# Altium integrated library STM32.IntLib: 732 symbols (part 81 of 99)
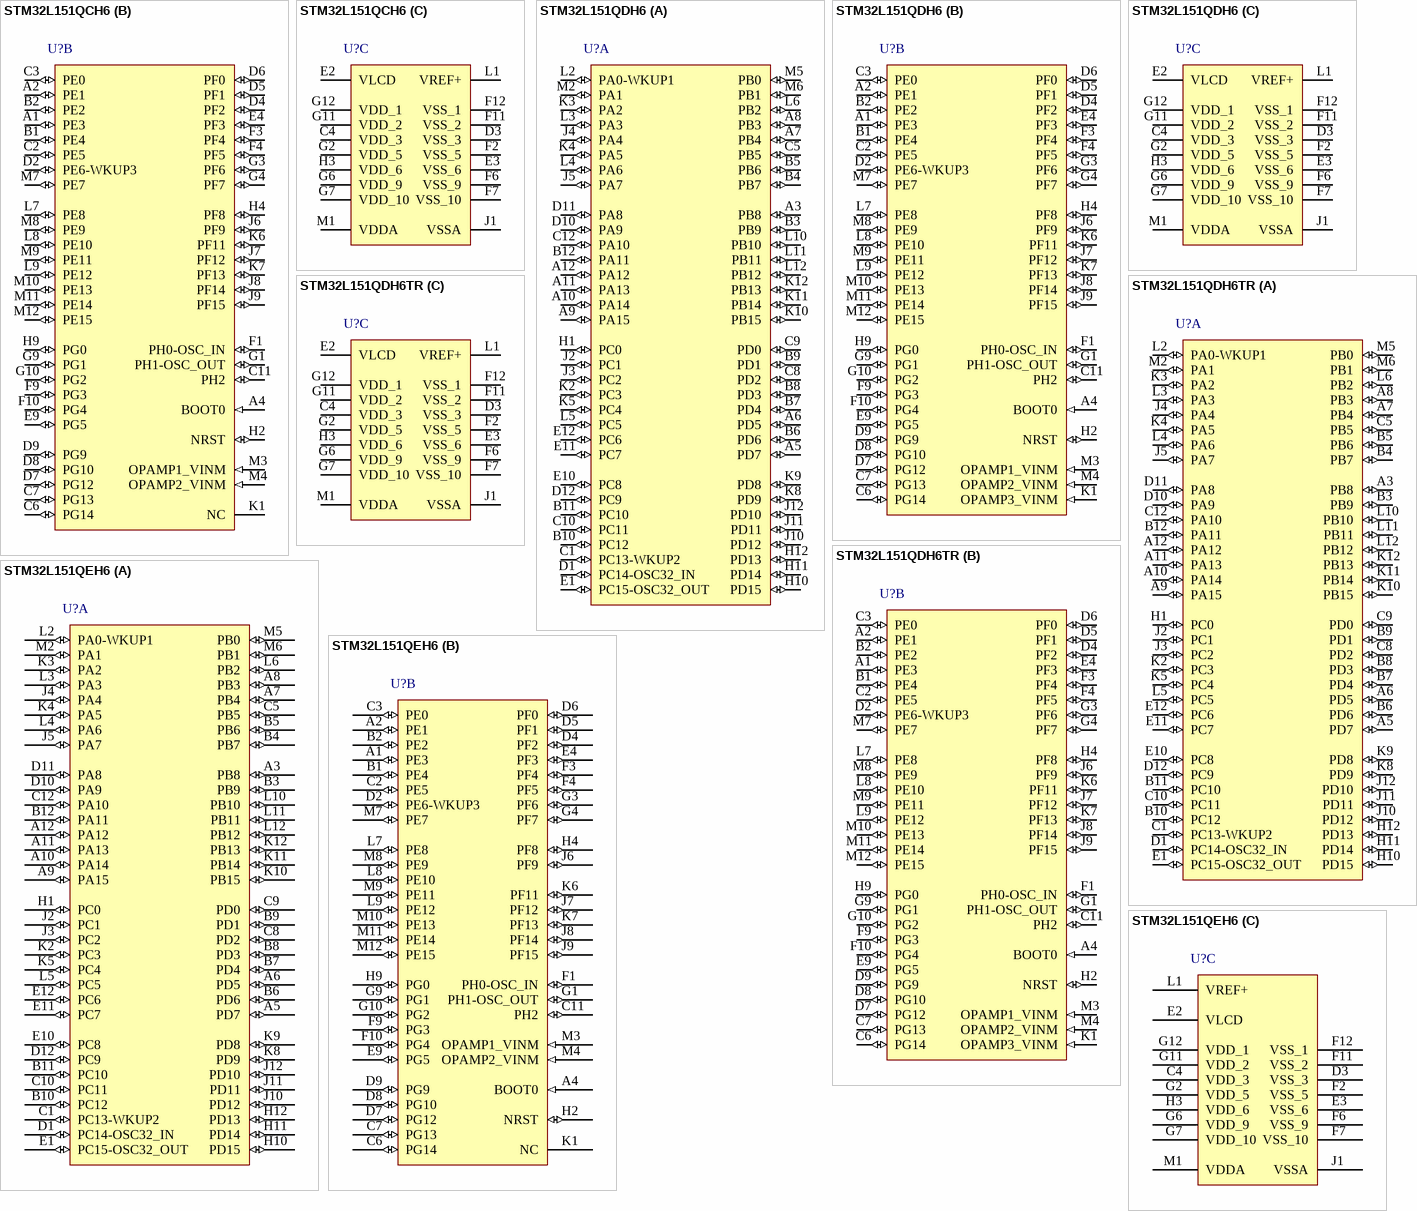
[diagram p234: symbols STM32L151QCH6 to STM32L151QEH6]

## STM32L151QDH6
designator U?
ARM Cortex-M3 32-bit MCU, 384 KB Flash, 48 KB Internal RAM, 109 I/Os, 132-pin UFBGA, -40 to 85 degC, Tray; Manufacturer: STMicroelectronics; PartNumber: STM32L151QDH6; D/A Converter: 2x12-bit (2 Channel); Data E2PROM nom (B): 12288; FLASH Size (Prog) (kB): 384; I/Os (High Current): 109; Integrated op-amps: 3; Internal RAM Size (kB): 48; Operating Frequency(F) (Processor speed) (MHz): 32; Supply Voltage(Vcc) min (V): 1.65; DatasheetVersion: Rev. 6; PackageVersion: Rev. 4, 02/2013; PackageReference: UFBGA132; PackageDescription: 132-Ball Ultra Thin Fine Pitch Ball Grid Array, 7 x 7 x 0.6 mm Body, 0.5 mm Pitch; Core: ARM Cortex-M3; Packing: Tray; Mounting Technology: Surface Mount; ComponentLink1Description: Manufacturer URL; ComponentLink1URL: http://www.st.com/web/en/home.html; ComponentLink2Description: Datasheet; ComponentLink2URL: http://www.st.com/st-web-ui/static/active/en/resource/technical/document/datasheet/DM00034689.pdf; ComponentLink3Description: Package Specification; ComponentLink3URL: http://www.st.com/st-web-ui/static/active/en/resource/technical/document/datasheet/DM00039232.pdf
footprint STM-UFBGA132 (BGA, 132-Balls, Body 7x7mm, Pitch 0.5mm)
part A pins: A3 PB8 (io) "PB8/TIM4_CH3/TIM10_CH1/I2C1_SCL/LCD_SEG16/SDIO_D4", A5 PD7 (io) "PD7/TIM9_CH2/USART2_CK/FSMC_NE1", A6 PD5 (io) "PD5/USART2_TX/FSMC_NWE", A7 PB4 (io) "PB4/NJTRST/TIM3_CH1/SPI1_MISO/SPI3_MISO/LCD_SEG8/COMP2_INP", A8 PB3 (io) "PB3/JTDO/TIM2_CH2/SPI1_SCK/SPI3_SCK/I2S3_CK/LCD_SEG7/COMP2_INM", A9 PA15 (io) "PA15/JTDI/TIM2_CH1_ETR/SPI1_NSS/SPI3_NSS/I2S3_WS/LCD_SEG17", A10 PA14 (io) "PA14/JTCK-SWCLK", A11 PA13 (io) "PA13/JTMS-SWDAT", A12 PA12 (io) "PA12/USART1_RTS/USB_DP/SPI1_MOSI", B3 PB9 (io) "PB9/TIM4_CH4/TIM11_CH1/I2C1_SDA/LCD_COM3/SDIO_D5", B4 PB7 (io) "PB7/TIM4_CH2/I2C1_SDA/USART1_RX/PVD_IN/FSMC_NADV/COMP2_INP", B5 PB6 (io) "PB6/TIM4_CH1/I2C1_SCL/USART1_TX/COMP2_INP", B6 PD6 (io) "PD6/USART2_RX/FSMC_NWAIT", B7 PD4 (io) "PD4/SPI2_MOSI/I2S2_SD/USART2_RTS/FSMC_NOE", B8 PD3 (io) "PD3/SPI2_MISO/USART2_CTS/FSMC_CLK", B9 PD1 (io) "PD1/SPI2_SCK/I2S2_CK/FSMC_D3", B10 PC12 (io) "PC12/SPI3_MOSI/I2S3_SD/USART3_CK/UART5_TX/LCD_SEG30/LCD_SEG42/LCD_COM6/SDIO_CK", B11 PC10 (io) "PC10/SPI3_SCK/I2S3_CK/USART3_TX/UART4_TX/LCD_SEG28/LCD_SEG40/LCD_COM4/SDIO_D2", B12 PA11 (io) "PA11/USART1_CTS/USB_DM/SPI1_MISO", C1 PC13-WKUP2 (io) "PC13-WKUP2/PC13/WKUP2/RTC_TAMP1/RTC_TS/RTC_OUT", C5 PB5 (io) "PB5/TIM3_CH2/I2C1_SMBA/SPI1_MOSI/SPI3_MOSI/I2S3_SD/LCD_SEG9/COMP2_INP", C8 PD2 (io) "PD2/TIM3_ETR/UART5_RX/LCD_SEG31/LCD_SEG43/LCD_COM7/SDIO_CMD", C9 PD0 (io) "PD0/TIM9_CH1/SPI2_NSS/I2S2_WS/FSMC_D2", C10 PC11 (io) "PC11/SPI3_MISO/USART3_RX/UART4_RX/LCD_SEG29/LCD_SEG41/LCD_COM5/SDIO_D3", C12 PA10 (io) "PA10/USART1_RX/LCD_COM2", D1 PC14-OSC32_IN (io) "PC14-OSC32_IN/PC14/OSC32_IN", D10 PA9 (io) "PA9/USART1_TX/LCD_COM1", D11 PA8 (io) "PA8/USART1_CK/MCO/LCD_COM0", D12 PC9 (io) "PC9/TIM3_CH4/LCD_SEG27/SDIO_D1", E1 PC15-OSC32_OUT (io) "PC15-OSC32_OUT/PC15/OSC32_OUT", E10 PC8 (io) "PC8/TIM3_CH3/LCD_SEG26/SDIO_D0", E11 PC7 (io) "PC7/TIM3_CH2/I2S3_MCK/LCD_SEG25/SDIO_D7", E12 PC6 (io) "PC6/TIM3_CH1/I2S2_MCK/LCD_SEG24/SDIO_D6", H1 PC0 (io) "PC0/LCD_SEG18/ADC_IN10/COMP1_INP", H10 PD15 (io) "PD15/TIM4_CH4/LCD_SEG35/FSMC_D1", H11 PD14 (io) "PD14/TIM4_CH3/LCD_SEG34/FSMC_D0", H12 PD13 (io) "PD13/TIM4_CH2/LCD_SEG33/FSMC_A18", J2 PC1 (io) "PC1/LCD_SEG19/ADC_IN11/COMP1_INP/OPAMP3_VINP", J3 PC2 (io) "PC2/LCD_SEG20/ADC_IN12/COMP1_INP", J4 PA4 (io) "PA4/SPI1_NSS/SPI3_NSS/I2S3_WS/USART2_CK/ADC_IN4/DAC_OUT1/COMP1_INP", J5 PA7 (io) "PA7/TIM3_CH2/TIM11_CH1/SPI1_MOSI/LCD_SEG4/ADC_IN7/COMP1_INP", J10 PD12 (io) "PD12/TIM4_CH1/USART3_RTS/LCD_SEG32/FSMC_A17", J11 PD11 (io) "PD11/USART3_CTS/LCD_SEG31/FSMC_A16", J12 PD10 (io) "PD10/USART3_CK/LCD_SEG30/FSMC_D15", K2 PC3 (io) "PC3/LCD_SEG21/ADC_IN13/COMP1_INP/OPAMP3_VOUT", K3 PA2 (io) "PA2/TIM2_CH3/TIM5_CH3/TIM9_CH1/USART2_TX/LCD_SEG1/ADC_IN2/COMP1_INP", K4 PA5 (io) "PA5/TIM2_CH1_ETR/SPI1_SCK/ADC_IN5/DAC_OUT2/COMP1_INP", K5 PC4 (io) "PC4/LCD_SEG22/ADC_IN14/COMP1_INP", K8 PD9 (io) "PD9/USART3_RX/LCD_SEG29/FSMC_D14", K9 PD8 (io) "PD8/USART3_TX/LCD_SEG28/FSMC_D13", K10 PB15 (io) "PB15/TIM11_CH1/SPI2_MOSI/I2S2_SD/LCD_SEG15/ADC_IN21/COMP1_INP/RTC_REFIN", K11 PB14 (io) "PB14/TIM9_CH2/SPI2_MISO/USART3_RTS/LCD_SEG14/ADC_IN20/COMP1_INP", K12 PB13 (io) "PB13/TIM9_CH1/SPI2_SCK/I2S2_CK/USART3_CTS/LCD_SEG13/ADC_IN19/COMP1_INP", L2 PA0-WKUP1 (io) "PA0-WKUP1/PA0/WKUP1/RTC_TAMP2/TIM2_CH1_ETR/TIM5_CH1/USART2_CTS/ADC_IN0/COMP1_INP", L3 PA3 (io) "PA3/TIM2_CH4/TIM5_CH4/TIM9_CH2/USART2_RX/LCD_SEG2/ADC_IN3/COMP1_INP/OPAMP1_VOUT", L4 PA6 (io) "PA6/TIM3_CH1/TIM10_CH1/SPI1_MISO/LCD_SEG3/ADC_IN6/COMP1_INP/OPAMP2_VINP", L5 PC5 (io) "PC5/LCD_SEG23/ADC_IN15/COMP1_INP", L6 PB2 (io) "PB2/BOOT1/ADC_IN0B/COMP1_INP", L10 PB10 (io) "PB10/TIM2_CH3/I2C2_SCL/USART3_TX/LCD_SEG10", L11 PB11 (io) "PB11/TIM2_CH4/I2C2_SDA/USART3_RX/LCD_SEG11", L12 PB12 (io) "PB12/TIM10_CH1/I2C2_SMBA/SPI2_NSS/I2S2_WS/USART3_CK/LCD_SEG12/ADC_IN18/COMP1_INP", M2 PA1 (io) "PA1/TIM2_CH2/TIM5_CH2/USART2_RTS/LCD_SEG0/ADC_IN1/COMP1_INP/OPAMP1_VINP", M5 PB0 (io) "PB0/TIM3_CH3/LCD_SEG5/ADC_IN8/COMP1_INP/VREF_OUT/OPAMP2_VOUT", M6 PB1 (io) "PB1/TIM3_CH4/LCD_SEG6/ADC_IN9/COMP1_INP/VREF_OUT"
part B pins: A1 PE3 (io) "PE3/TIM3_CH1/LCD_SEG39/FSMC_A19/TRACED0", A2 PE1 (io) "PE1/TIM11_CH1/LCD_SEG37/FSMC_NBL1", A4 BOOT0 (in), B1 PE4 (io) "PE4/TIM3_CH2/FSMC_A20/TRACED1", B2 PE2 (io) "PE2/TIM3_ETR/LCD_SEG38/FSMC_A23/TRACECLK", C2 PE5 (io) "PE5/TIM9_CH1/FSMC_A21/TRACED2", C3 PE0 (io) "PE0/TIM4_ETR/TIM10_CH1/LCD_SEG36/FSMC_NBL0", C6 PG14 (io) "PG14/FSMC_A25", C7 PG13 (io) "PG13/FSMC_A24", C11 PH2 (io) "PH2/FSMC_A22", D2 PE6-WKUP3 (io) "PE6-WKUP3/PE6/WKUP3/RTC_TAMP3/TIM9_CH2/TRACED3", D4 PF2 (io) "PF2/FSMC_A2", D5 PF1 (io) "PF1/FSMC_A1", D6 PF0 (io) "PF0/FSMC_A0", D7 PG12 (io) "PG12/FSMC_NE4", D8 PG10 (io) "PG10/FSMC_NE3", D9 PG9 (io) "PG9/FSMC_NE2", E4 PF3 (io) "PF3/FSMC_A3", E9 PG5 (io) "PG5/FSMC_A15", F1 PH0-OSC_IN (io) "PH0-OSC_IN/PH0/OSC_IN", F3 PF4 (io) "PF4/FSMC_A4", F4 PF5 (io) "PF5/FSMC_A5", F9 PG3 (io) "PG3/FSMC_A13/ADC_IN11B/COMP1_INP", F10 PG4 (io) "PG4/FSMC_A14/ADC_IN12B/COMP1_INP", G1 PH1-OSC_OUT (io) "PH1-OSC_OUT/PH1/OSC_OUT", G3 PF6 (io) "PF6/TIM5_CH1/TIM5_ETR/ADC_IN27", G4 PF7 (io) "PF7/TIM5_CH2/ADC_IN28/COMP1_INP", G9 PG1 (io) "PG1/ADC_IN9B/COMP1_INP/FSMC_A11", G10 PG2 (io) "PG2/FSMC_A12/ADC_IN10B/COMP1_INP", H2 NRST (io), H4 PF8 (io) "PF8/TIM5_CH3/ADC_IN29/COMP1_INP", H9 PG0 (io) "PG0/ADC_IN8B/COMP1_INP/FSMC_A10", J6 PF9 (io) "PF9/TIM5_CH4/ADC_IN30/COMP1_INP", J7 PF12 (io) "PF12/ADC_IN2B/COMP1_INP/FSMC_A6", J8 PF14 (io) "PF14/ADC_IN6B/COMP1_INP/FSMC_A8", J9 PF15 (io) "PF15/ADC_IN7B/COMP1_INP/FSMC_A9", K1 OPAMP3_VINM (in), K6 PF11 (io) "PF11/ADC_IN1B/COMP1_INP", K7 PF13 (io) "PF13/ADC_IN3B/COMP1_INP/FSMC_A7", L7 PE8 (io) "PE8/FSMC_D5/ADC_IN23/COMP1_INP", L8 PE10 (io) "PE10/TIM2_CH2/FSMC_D7/ADC_IN25/COMP1_INP", L9 PE12 (io) "PE12/TIM2_CH4/SPI1_NSS/FSMC_D9", M3 OPAMP1_VINM (in), M4 OPAMP2_VINM (in), M7 PE7 (io) "PE7/FSMC_D4/ADC_IN22/COMP1_INP", M8 PE9 (io) "PE9/TIM2_CH1_ETR/FSMC_D6/ADC_IN24/COMP1_INP", M9 PE11 (io) "PE11/TIM2_CH3/FSMC_D8", M10 PE13 (io) "PE13/SPI1_SCK/FSMC_D10", M11 PE14 (io) "PE14/SPI1_MISO/FSMC_D11", M12 PE15 (io) "PE15/SPI1_MOSI/FSMC_D12"
part C pins: C4 VDD_3 (power), D3 VSS_3 (power), E2 VLCD (power), E3 VSS_6 (power), F2 VSS_5 (power), F6 VSS_9 (power), F7 VSS_10 (power), F11 VSS_2 (power), F12 VSS_1 (power), G2 VDD_5 (power), G6 VDD_9 (power), G7 VDD_10 (power), G11 VDD_2 (power), G12 VDD_1 (power), H3 VDD_6 (power), J1 VSSA (power), L1 VREF+ (power), M1 VDDA (power)

## STM32L151QDH6TR
designator U?
ARM Cortex-M3 32-bit MCU, 384 KB Flash, 48 KB Internal RAM, 109 I/Os, 132-pin UFBGA, -40 to 85 degC, Tape and Reel; Manufacturer: STMicroelectronics; PartNumber: STM32L151QDH6TR; D/A Converter: 2x12-bit (2 Channel); Data E2PROM nom (B): 12288; FLASH Size (Prog) (kB): 384; I/Os (High Current): 109; Integrated op-amps: 3; Internal RAM Size (kB): 48; Operating Frequency(F) (Processor speed) (MHz): 32; Supply Voltage(Vcc) min (V): 1.65; DatasheetVersion: Rev. 6; PackageVersion: Rev. 4, 02/2013; PackageReference: UFBGA132; PackageDescription: 132-Ball Ultra Thin Fine Pitch Ball Grid Array, 7 x 7 x 0.6 mm Body, 0.5 mm Pitch; Core: ARM Cortex-M3; Packing: Tape and Reel; Mounting Technology: Surface Mount; ComponentLink1Description: Manufacturer URL; ComponentLink1URL: http://www.st.com/web/en/home.html; ComponentLink2Description: Datasheet; ComponentLink2URL: http://www.st.com/st-web-ui/static/active/en/resource/technical/document/datasheet/DM00034689.pdf; ComponentLink3Description: Package Specification; ComponentLink3URL: http://www.st.com/st-web-ui/static/active/en/resource/technical/document/datasheet/DM00039232.pdf
footprint STM-UFBGA132 (BGA, 132-Balls, Body 7x7mm, Pitch 0.5mm)
part A pins: A3 PB8 (io) "PB8/TIM4_CH3/TIM10_CH1/I2C1_SCL/LCD_SEG16/SDIO_D4", A5 PD7 (io) "PD7/TIM9_CH2/USART2_CK/FSMC_NE1", A6 PD5 (io) "PD5/USART2_TX/FSMC_NWE", A7 PB4 (io) "PB4/NJTRST/TIM3_CH1/SPI1_MISO/SPI3_MISO/LCD_SEG8/COMP2_INP", A8 PB3 (io) "PB3/JTDO/TIM2_CH2/SPI1_SCK/SPI3_SCK/I2S3_CK/LCD_SEG7/COMP2_INM", A9 PA15 (io) "PA15/JTDI/TIM2_CH1_ETR/SPI1_NSS/SPI3_NSS/I2S3_WS/LCD_SEG17", A10 PA14 (io) "PA14/JTCK-SWCLK", A11 PA13 (io) "PA13/JTMS-SWDAT", A12 PA12 (io) "PA12/USART1_RTS/USB_DP/SPI1_MOSI", B3 PB9 (io) "PB9/TIM4_CH4/TIM11_CH1/I2C1_SDA/LCD_COM3/SDIO_D5", B4 PB7 (io) "PB7/TIM4_CH2/I2C1_SDA/USART1_RX/PVD_IN/FSMC_NADV/COMP2_INP", B5 PB6 (io) "PB6/TIM4_CH1/I2C1_SCL/USART1_TX/COMP2_INP", B6 PD6 (io) "PD6/USART2_RX/FSMC_NWAIT", B7 PD4 (io) "PD4/SPI2_MOSI/I2S2_SD/USART2_RTS/FSMC_NOE", B8 PD3 (io) "PD3/SPI2_MISO/USART2_CTS/FSMC_CLK", B9 PD1 (io) "PD1/SPI2_SCK/I2S2_CK/FSMC_D3", B10 PC12 (io) "PC12/SPI3_MOSI/I2S3_SD/USART3_CK/UART5_TX/LCD_SEG30/LCD_SEG42/LCD_COM6/SDIO_CK", B11 PC10 (io) "PC10/SPI3_SCK/I2S3_CK/USART3_TX/UART4_TX/LCD_SEG28/LCD_SEG40/LCD_COM4/SDIO_D2", B12 PA11 (io) "PA11/USART1_CTS/USB_DM/SPI1_MISO", C1 PC13-WKUP2 (io) "PC13-WKUP2/PC13/WKUP2/RTC_TAMP1/RTC_TS/RTC_OUT", C5 PB5 (io) "PB5/TIM3_CH2/I2C1_SMBA/SPI1_MOSI/SPI3_MOSI/I2S3_SD/LCD_SEG9/COMP2_INP", C8 PD2 (io) "PD2/TIM3_ETR/UART5_RX/LCD_SEG31/LCD_SEG43/LCD_COM7/SDIO_CMD", C9 PD0 (io) "PD0/TIM9_CH1/SPI2_NSS/I2S2_WS/FSMC_D2", C10 PC11 (io) "PC11/SPI3_MISO/USART3_RX/UART4_RX/LCD_SEG29/LCD_SEG41/LCD_COM5/SDIO_D3", C12 PA10 (io) "PA10/USART1_RX/LCD_COM2", D1 PC14-OSC32_IN (io) "PC14-OSC32_IN/PC14/OSC32_IN", D10 PA9 (io) "PA9/USART1_TX/LCD_COM1", D11 PA8 (io) "PA8/USART1_CK/MCO/LCD_COM0", D12 PC9 (io) "PC9/TIM3_CH4/LCD_SEG27/SDIO_D1", E1 PC15-OSC32_OUT (io) "PC15-OSC32_OUT/PC15/OSC32_OUT", E10 PC8 (io) "PC8/TIM3_CH3/LCD_SEG26/SDIO_D0", E11 PC7 (io) "PC7/TIM3_CH2/I2S3_MCK/LCD_SEG25/SDIO_D7", E12 PC6 (io) "PC6/TIM3_CH1/I2S2_MCK/LCD_SEG24/SDIO_D6", H1 PC0 (io) "PC0/LCD_SEG18/ADC_IN10/COMP1_INP", H10 PD15 (io) "PD15/TIM4_CH4/LCD_SEG35/FSMC_D1", H11 PD14 (io) "PD14/TIM4_CH3/LCD_SEG34/FSMC_D0", H12 PD13 (io) "PD13/TIM4_CH2/LCD_SEG33/FSMC_A18", J2 PC1 (io) "PC1/LCD_SEG19/ADC_IN11/COMP1_INP/OPAMP3_VINP", J3 PC2 (io) "PC2/LCD_SEG20/ADC_IN12/COMP1_INP", J4 PA4 (io) "PA4/SPI1_NSS/SPI3_NSS/I2S3_WS/USART2_CK/ADC_IN4/DAC_OUT1/COMP1_INP", J5 PA7 (io) "PA7/TIM3_CH2/TIM11_CH1/SPI1_MOSI/LCD_SEG4/ADC_IN7/COMP1_INP", J10 PD12 (io) "PD12/TIM4_CH1/USART3_RTS/LCD_SEG32/FSMC_A17", J11 PD11 (io) "PD11/USART3_CTS/LCD_SEG31/FSMC_A16", J12 PD10 (io) "PD10/USART3_CK/LCD_SEG30/FSMC_D15", K2 PC3 (io) "PC3/LCD_SEG21/ADC_IN13/COMP1_INP/OPAMP3_VOUT", K3 PA2 (io) "PA2/TIM2_CH3/TIM5_CH3/TIM9_CH1/USART2_TX/LCD_SEG1/ADC_IN2/COMP1_INP", K4 PA5 (io) "PA5/TIM2_CH1_ETR/SPI1_SCK/ADC_IN5/DAC_OUT2/COMP1_INP", K5 PC4 (io) "PC4/LCD_SEG22/ADC_IN14/COMP1_INP", K8 PD9 (io) "PD9/USART3_RX/LCD_SEG29/FSMC_D14", K9 PD8 (io) "PD8/USART3_TX/LCD_SEG28/FSMC_D13", K10 PB15 (io) "PB15/TIM11_CH1/SPI2_MOSI/I2S2_SD/LCD_SEG15/ADC_IN21/COMP1_INP/RTC_REFIN", K11 PB14 (io) "PB14/TIM9_CH2/SPI2_MISO/USART3_RTS/LCD_SEG14/ADC_IN20/COMP1_INP", K12 PB13 (io) "PB13/TIM9_CH1/SPI2_SCK/I2S2_CK/USART3_CTS/LCD_SEG13/ADC_IN19/COMP1_INP", L2 PA0-WKUP1 (io) "PA0-WKUP1/PA0/WKUP1/RTC_TAMP2/TIM2_CH1_ETR/TIM5_CH1/USART2_CTS/ADC_IN0/COMP1_INP", L3 PA3 (io) "PA3/TIM2_CH4/TIM5_CH4/TIM9_CH2/USART2_RX/LCD_SEG2/ADC_IN3/COMP1_INP/OPAMP1_VOUT", L4 PA6 (io) "PA6/TIM3_CH1/TIM10_CH1/SPI1_MISO/LCD_SEG3/ADC_IN6/COMP1_INP/OPAMP2_VINP", L5 PC5 (io) "PC5/LCD_SEG23/ADC_IN15/COMP1_INP", L6 PB2 (io) "PB2/BOOT1/ADC_IN0B/COMP1_INP", L10 PB10 (io) "PB10/TIM2_CH3/I2C2_SCL/USART3_TX/LCD_SEG10", L11 PB11 (io) "PB11/TIM2_CH4/I2C2_SDA/USART3_RX/LCD_SEG11", L12 PB12 (io) "PB12/TIM10_CH1/I2C2_SMBA/SPI2_NSS/I2S2_WS/USART3_CK/LCD_SEG12/ADC_IN18/COMP1_INP", M2 PA1 (io) "PA1/TIM2_CH2/TIM5_CH2/USART2_RTS/LCD_SEG0/ADC_IN1/COMP1_INP/OPAMP1_VINP", M5 PB0 (io) "PB0/TIM3_CH3/LCD_SEG5/ADC_IN8/COMP1_INP/VREF_OUT/OPAMP2_VOUT", M6 PB1 (io) "PB1/TIM3_CH4/LCD_SEG6/ADC_IN9/COMP1_INP/VREF_OUT"
part B pins: A1 PE3 (io) "PE3/TIM3_CH1/LCD_SEG39/FSMC_A19/TRACED0", A2 PE1 (io) "PE1/TIM11_CH1/LCD_SEG37/FSMC_NBL1", A4 BOOT0 (in), B1 PE4 (io) "PE4/TIM3_CH2/FSMC_A20/TRACED1", B2 PE2 (io) "PE2/TIM3_ETR/LCD_SEG38/FSMC_A23/TRACECLK", C2 PE5 (io) "PE5/TIM9_CH1/FSMC_A21/TRACED2", C3 PE0 (io) "PE0/TIM4_ETR/TIM10_CH1/LCD_SEG36/FSMC_NBL0", C6 PG14 (io) "PG14/FSMC_A25", C7 PG13 (io) "PG13/FSMC_A24", C11 PH2 (io) "PH2/FSMC_A22", D2 PE6-WKUP3 (io) "PE6-WKUP3/PE6/WKUP3/RTC_TAMP3/TIM9_CH2/TRACED3", D4 PF2 (io) "PF2/FSMC_A2", D5 PF1 (io) "PF1/FSMC_A1", D6 PF0 (io) "PF0/FSMC_A0", D7 PG12 (io) "PG12/FSMC_NE4", D8 PG10 (io) "PG10/FSMC_NE3", D9 PG9 (io) "PG9/FSMC_NE2", E4 PF3 (io) "PF3/FSMC_A3", E9 PG5 (io) "PG5/FSMC_A15", F1 PH0-OSC_IN (io) "PH0-OSC_IN/PH0/OSC_IN", F3 PF4 (io) "PF4/FSMC_A4", F4 PF5 (io) "PF5/FSMC_A5", F9 PG3 (io) "PG3/FSMC_A13/ADC_IN11B/COMP1_INP", F10 PG4 (io) "PG4/FSMC_A14/ADC_IN12B/COMP1_INP", G1 PH1-OSC_OUT (io) "PH1-OSC_OUT/PH1/OSC_OUT", G3 PF6 (io) "PF6/TIM5_CH1/TIM5_ETR/ADC_IN27", G4 PF7 (io) "PF7/TIM5_CH2/ADC_IN28/COMP1_INP", G9 PG1 (io) "PG1/ADC_IN9B/COMP1_INP/FSMC_A11", G10 PG2 (io) "PG2/FSMC_A12/ADC_IN10B/COMP1_INP", H2 NRST (io), H4 PF8 (io) "PF8/TIM5_CH3/ADC_IN29/COMP1_INP", H9 PG0 (io) "PG0/ADC_IN8B/COMP1_INP/FSMC_A10", J6 PF9 (io) "PF9/TIM5_CH4/ADC_IN30/COMP1_INP", J7 PF12 (io) "PF12/ADC_IN2B/COMP1_INP/FSMC_A6", J8 PF14 (io) "PF14/ADC_IN6B/COMP1_INP/FSMC_A8", J9 PF15 (io) "PF15/ADC_IN7B/COMP1_INP/FSMC_A9", K1 OPAMP3_VINM (in), K6 PF11 (io) "PF11/ADC_IN1B/COMP1_INP", K7 PF13 (io) "PF13/ADC_IN3B/COMP1_INP/FSMC_A7", L7 PE8 (io) "PE8/FSMC_D5/ADC_IN23/COMP1_INP", L8 PE10 (io) "PE10/TIM2_CH2/FSMC_D7/ADC_IN25/COMP1_INP", L9 PE12 (io) "PE12/TIM2_CH4/SPI1_NSS/FSMC_D9", M3 OPAMP1_VINM (in), M4 OPAMP2_VINM (in), M7 PE7 (io) "PE7/FSMC_D4/ADC_IN22/COMP1_INP", M8 PE9 (io) "PE9/TIM2_CH1_ETR/FSMC_D6/ADC_IN24/COMP1_INP", M9 PE11 (io) "PE11/TIM2_CH3/FSMC_D8", M10 PE13 (io) "PE13/SPI1_SCK/FSMC_D10", M11 PE14 (io) "PE14/SPI1_MISO/FSMC_D11", M12 PE15 (io) "PE15/SPI1_MOSI/FSMC_D12"
part C pins: C4 VDD_3 (power), D3 VSS_3 (power), E2 VLCD (power), E3 VSS_6 (power), F2 VSS_5 (power), F6 VSS_9 (power), F7 VSS_10 (power), F11 VSS_2 (power), F12 VSS_1 (power), G2 VDD_5 (power), G6 VDD_9 (power), G7 VDD_10 (power), G11 VDD_2 (power), G12 VDD_1 (power), H3 VDD_6 (power), J1 VSSA (power), L1 VREF+ (power), M1 VDDA (power)

## STM32L151QEH6
designator U?
ARM Cortex-M3 32-bit MCU, 512 KB Flash, 80 KB Internal RAM, 109 I/Os, 132-pin UFBGA, -40 to 85 degC, Tray; Manufacturer: STMicroelectronics; PartNumber: STM32L151QEH6; D/A Converter: 2x12-bit (2 Channel); Data E2PROM nom (KB): 16; FLASH Size (Prog) (kB): 512; I/Os (High Current): 109; Internal RAM Size (kB): 80; Operating Frequency(F) (Processor speed) (MHz): 32; Supply Voltage (V): 1.8 to 3.6 V; DatasheetVersion: Rev. 4; PackageVersion: Rev. 4; PackageReference: UFBGA132; PackageDescription: 132-Ball Ultra Thin Fine Pitch Ball Grid Array, Body 7 x 7 mm, Pitch 0.5 mm; Core: ARM Cortex-M3; Temperature Range: -40 to 85 degC; Packing: Tray; Mounting Technology: Surface Mount; ComponentLink1Description: Manufacturer URL; ComponentLink1URL: http://www.st.com/web/en/home.html; ComponentLink2Description: Datasheet; ComponentLink2URL: http://www.st.com/st-web-ui/static/active/en/resource/technical/document/datasheet/DM00098321.pdf; ComponentLink3Description: Package Specification; ComponentLink3URL: http://www.st.com/st-web-ui/static/active/en/resource/technical/document/datasheet/DM00098321.pdf
footprint STM-UFBGA132 (BGA, 132-Balls, Body 7x7mm, Pitch 0.5mm)
part A pins: A3 PB8 (io) "PB8/TIM4_CH3/TIM10_CH1/I2C1_SCL/LCD_SEG16", A5 PD7 (io) "PD7/TIM9_CH2/USART2_CK", A6 PD5 (io) "PD5/USART2_TX", A7 PB4 (io) "PB4/NJTRST/TIM3_CH1/SPI1_MISO/SPI3_MISO/LCD_SEG8/COMP2_INP", A8 PB3 (io) "PB3/JTDO/TIM2_CH2/SPI1_SCK/SPI3_SCK/I2S3_CK/LCD_SEG7/COMP2_INM", A9 PA15 (io) "PA15/JTDI/TIM2_CH1_ETR/SPI1_NSS/SPI3_NSS/I2S3_WS/LCD_SEG17", A10 PA14 (io) "PA14/JTCK-SWCLK", A11 PA13 (io) "PA13/JTMS-SWDAT", A12 PA12 (io) "PA12/USART1_RTS/USB_DP/SPI1_MOSI", B3 PB9 (io) "PB9/TIM4_CH4/TIM11_CH1/I2C1_SDA/LCD_COM3", B4 PB7 (io) "PB7/TIM4_CH2/I2C1_SDA/USART1_RX/PVD_IN/COMP2_INP", B5 PB6 (io) "PB6/TIM4_CH1/I2C1_SCL/USART1_TX/COMP2_INP", B6 PD6 (io) "PD6/USART2_RX", B7 PD4 (io) "PD4/SPI2_MOSI/I2S2_SD/USART2_RTS", B8 PD3 (io) "PD3/SPI2_MISO/USART2_CTS", B9 PD1 (io) "PD1/SPI2_SCK/I2S2_CK", B10 PC12 (io) "PC12/SPI3_MOSI/I2S3_SD/USART3_CK/UART5_TX/LCD_SEG30/LCD_SEG42/LCD_COM6", B11 PC10 (io) "PC10/SPI3_SCK/I2S3_CK/USART3_TX/UART4_TX/LCD_SEG28/LCD_SEG40/LCD_COM4", B12 PA11 (io) "PA11/USART1_CTS/USB_DM/SPI1_MISO", C1 PC13-WKUP2 (io) "PC13-WKUP2/PC13/WKUP2/RTC_TAMP1/RTC_TS/RTC_OUT", C5 PB5 (io) "PB5/TIM3_CH2/I2C1_SMBA/SPI1_MOSI/SPI3_MOSI/I2S3_SD/LCD_SEG9/COMP2_INP", C8 PD2 (io) "PD2/TIM3_ETR/UART5_RX/LCD_SEG31/LCD_SEG43/LCD_COM7", C9 PD0 (io) "PD0/TIM9_CH1/SPI2_NSS/I2S2_WS", C10 PC11 (io) "PC11/SPI3_MISO/USART3_RX/UART4_RX/LCD_SEG29/LCD_SEG41/LCD_COM5", C12 PA10 (io) "PA10/USART1_RX/LCD_COM2", D1 PC14-OSC32_IN (io) "PC14-OSC32_IN/PC14/OSC32_IN", D10 PA9 (io) "PA9/USART1_TX/LCD_COM1", D11 PA8 (io) "PA8/USART1_CK/MCO/LCD_COM0", D12 PC9 (io) "PC9/TIM3_CH4/LCD_SEG27", E1 PC15-OSC32_OUT (io) "PC15-OSC32_OUT/PC15/OSC32_OUT", E10 PC8 (io) "PC8/TIM3_CH3/LCD_SEG26", E11 PC7 (io) "PC7/TIM3_CH2/I2S3_MCK/LCD_SEG25", E12 PC6 (io) "PC6/TIM3_CH1/I2S2_MCK/LCD_SEG24", H1 PC0 (io) "PC0/LCD_SEG18/ADC_IN10/COMP1_INP", H10 PD15 (io) "PD15/TIM4_CH4/LCD_SEG35", H11 PD14 (io) "PD14/TIM4_CH3/LCD_SEG34", H12 PD13 (io) "PD13/TIM4_CH2/LCD_SEG33", J2 PC1 (io) "PC1/LCD_SEG19/ADC_IN11/COMP1_INP", J3 PC2 (io) "PC2/LCD_SEG20/ADC_IN12/COMP1_INP", J4 PA4 (io) "PA4/SPI1_NSS/SPI3_NSS/I2S3_WS/USART2_CK/ADC_IN4/DAC_OUT1/COMP1_INP", J5 PA7 (io) "PA7/TIM3_CH2/TIM11_CH1/SPI1_MOSI/LCD_SEG4/ ADC_IN7/COMP1_INP", J10 PD12 (io) "PD12/TIM4_CH1/USART3_RTS/LCD_SEG32", J11 PD11 (io) "PD11/USART3_CTS/LCD_SEG31", J12 PD10 (io) "PD10/USART3_CK/LCD_SEG30", K2 PC3 (io) "PC3/LCD_SEG21/ADC_IN13/COMP1_INP", K3 PA2 (io) "PA2/TIM2_CH3/TIM5_CH3/TIM9_CH1/USART2_TX/LCD_SEG1/ADC_IN2/COMP1_INP", K4 PA5 (io) "PA5/TIM2_CH1_ETR/SPI1_SCK/ADC_IN5/DAC_OUT2/COMP1_INP", K5 PC4 (io) "PC4/LCD_SEG22/ADC_IN14/COMP1_INP", K8 PD9 (io) "PD9/USART3_RX/LCD_SEG29", K9 PD8 (io) "PD8/USART3_TX/LCD_SEG28", K10 PB15 (io) "PB15/TIM11_CH1/SPI2_MOSI/I2S2_SD/LCD_SEG15/ADC_IN21/COMP1_INP/RTC_REFIN", K11 PB14 (io) "PB14/TIM9_CH2/SPI2_MISO/USART3_RTS/LCD_SEG14/ADC_IN20/COMP1_INP", K12 PB13 (io) "PB13/TIM9_CH1/SPI2_SCK/I2S2_CK/USART3_CTS/LCD_SEG13/ADC_IN19/COMP1_INP", L2 PA0-WKUP1 (io) "PA0-WKUP1/PA0/WKUP1/RTC_TAMP2/TIM2_CH1_ETR/TIM5_CH1/USART2_CTS/ADC_IN0/COMP1_INP", L3 PA3 (io) "PA3/TIM2_CH4/TIM5_CH4/TIM9_CH2/USART2_RX/LCD_SEG2/ADC_IN3/COMP1_INP/OPAMP1_VOUT", L4 PA6 (io) "PA6/TIM3_CH1/TIM10_CH1/SPI1_MISO/LCD_SEG3/ADC_IN6/COMP1_INP/OPAMP2_VINP", L5 PC5 (io) "PC5/LCD_SEG23/ADC_IN15/COMP1_INP", L6 PB2 (io) "PB2/BOOT1/ADC_IN0b/COMP1_INP", L10 PB10 (io) "PB10/TIM2_CH3/I2C2_SCL/USART3_TX/LCD_SEG10", L11 PB11 (io) "PB11/TIM2_CH4/I2C2_SDA/USART3_RX/LCD_SEG11", L12 PB12 (io) "PB12/TIM10_CH1/I2C2_SMBA/SPI2_NSS/I2S2_WS/USART3_CK/LCD_SEG12/ADC_IN18/COMP1_INP", M2 PA1 (io) "PA1/TIM2_CH2/TIM5_CH2/USART2_RTS/LCD_SEG0/ADC_IN1/COMP1_INP/OPAMP1_VINP", M5 PB0 (io) "PB0/TIM3_CH3/LCD_SEG5/ADC_IN8/COMP1_INP/VREF_OUT/OPAMP2_VOUT", M6 PB1 (io) "PB1/TIM3_CH4/LCD_SEG6/ADC_IN9/COMP1_INP/VREF_OUT"
part B pins: A1 PE3 (io) "PE3/TIM3_CH1/LCD_SEG39/TRACED0", A2 PE1 (io) "PE1/TIM11_CH1/LCD_SEG37", A4 BOOT0 (in), B1 PE4 (io) "PE4/TIM3_CH2/TRACED1", B2 PE2 (io) "PE2/TIM3_ETR/LCD_SEG38/TRACECLK", C2 PE5 (io) "PE5/TIM9_CH1/TRACED2", C3 PE0 (io) "PE0/TIM4_ETR/TIM10_CH1/LCD_SEG36", C6 PG14 (io), C7 PG13 (io), C11 PH2 (io), D2 PE6-WKUP3 (io) "PE6-WKUP3/PE6/WKUP3/RTC_TAMP3/TIM9_CH2/TRACED3", D4 PF2 (io), D5 PF1 (io), D6 PF0 (io), D7 PG12 (io), D8 PG10 (io), D9 PG9 (io), E4 PF3 (io), E9 PG5 (io), F1 PH0-OSC_IN (io) "PH0-OSC_IN/PH0/OSC_IN", F3 PF4 (io), F4 PF5 (io), F9 PG3 (io) "PG3/ADC_IN11b/COMP1_INP", F10 PG4 (io) "PG4/ADC_IN12b/COMP1_INP", G1 PH1-OSC_OUT (io) "PH1-OSC_OUT/PH1/OSC_OUT", G3 PF6 (io) "PF6/TIM5_CH1/TIM5_ETR/ADC_IN27", G4 PF7 (io) "PF7/TIM5_CH2/ADC_IN28/COMP1_INP", G9 PG1 (io) "PG1/ADC_IN9b/COMP1_INP", G10 PG2 (io) "PG2/ADC_IN10b/COMP1_INP", H2 NRST (io), H4 PF8 (io) "PF8/TIM5_CH3/ADC_IN29/COMP1_INP", H9 PG0 (io) "PG0/ADC_IN8b/COMP1_INP", J6 PF9 (io) "PF9/TIM5_CH4/ADC_IN30/COMP1_INP", J7 PF12 (io) "PF12/ADC_IN2b/COMP1_INP", J8 PF14 (io) "PF14/ADC_IN6b/COMP1_INP", J9 PF15 (io) "PF15/ADC_IN7b/COMP1_INP", K1 NC, K6 PF11 (io) "PF11/ADC_IN1b/COMP1_INP", K7 PF13 (io) "PF13/ADC_IN3b/COMP1_INP", L7 PE8 (io) "PE8/ADC_IN23/COMP1_INP", L8 PE10 (io) "PE10/TIM2_CH2/ADC_IN25/COMP1_INP", L9 PE12 (io) "PE12/TIM2_CH4/SPI1_NSS", M3 OPAMP1_VINM (in), M4 OPAMP2_VINM (in), M7 PE7 (io) "PE7/ADC_IN22/COMP1_INP", M8 PE9 (io) "PE9/TIM2_CH1_ETR/ADC_IN24/COMP1_INP", M9 PE11 (io) "PE11/TIM2_CH3", M10 PE13 (io) "PE13/SPI1_SCK", M11 PE14 (io) "PE14/SPI1_MISO", M12 PE15 (io) "PE15/SPI1_MOSI"
part C pins: C4 VDD_3 (power), D3 VSS_3 (power), E2 VLCD (power), E3 VSS_6 (power), F2 VSS_5 (power), F6 VSS_9 (power), F7 VSS_10 (power), F11 VSS_2 (power), F12 VSS_1 (power), G2 VDD_5 (power), G6 VDD_9 (power), G7 VDD_10 (power), G11 VDD_2 (power), G12 VDD_1 (power), H3 VDD_6 (power), J1 VSSA (power), L1 VREF+ (power), M1 VDDA (power)

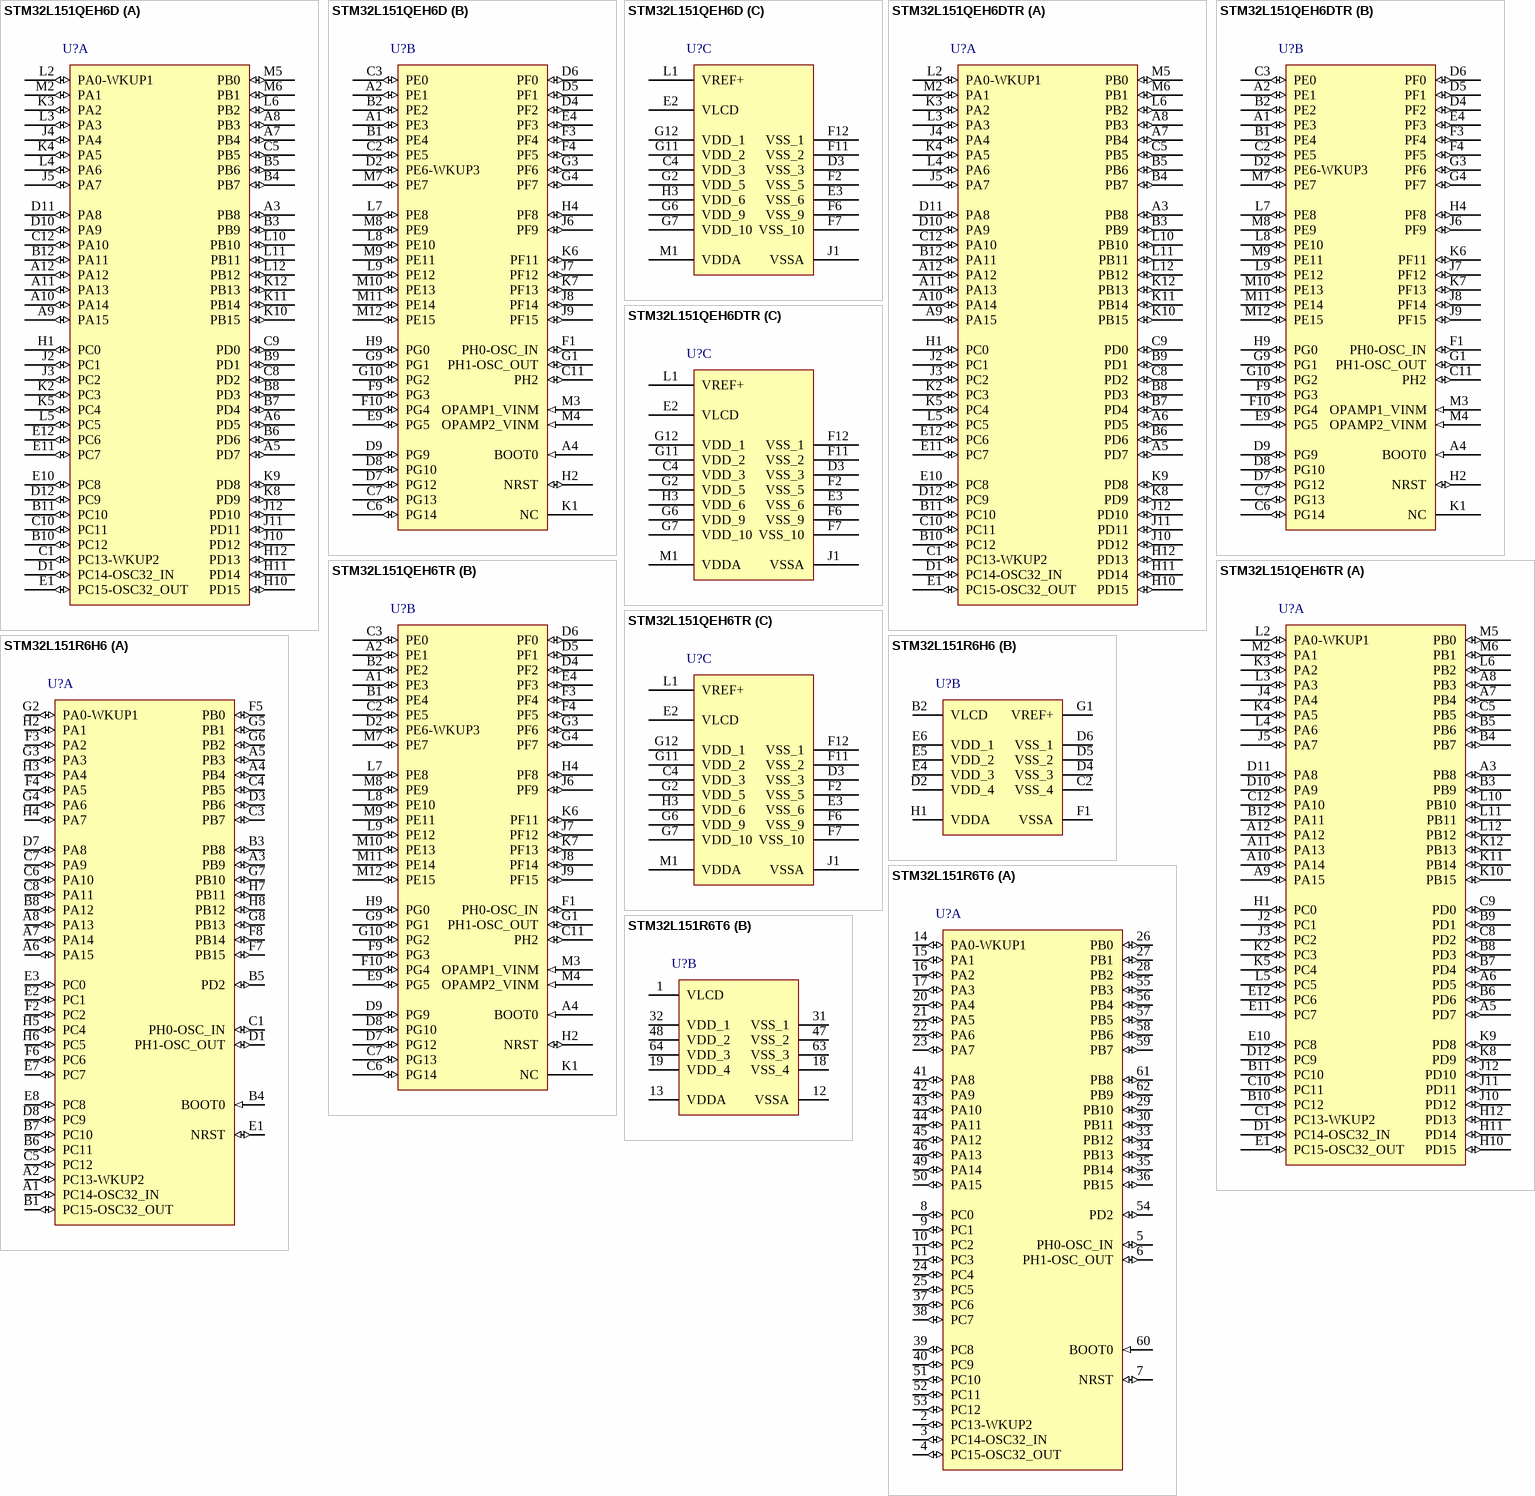
[diagram p124: symbols STM32L151QEH6D to STM32L151R6T6]

## STM32L151QEH6D
designator U?
ARM Cortex-M3 32-bit MCU, 512 KB Flash, 80 KB Internal RAM, 109 I/Os, 132-pin UFBGA, -40 to 85 degC, Tray; Manufacturer: STMicroelectronics; PartNumber: STM32L151QEH6D; D/A Converter: 2x12-bit (2 Channel); Data E2PROM nom (KB): 16; FLASH Size (Prog) (kB): 512; I/Os (High Current): 109; Internal RAM Size (kB): 80; Operating Frequency(F) (Processor speed) (MHz): 32; Supply Voltage (V): 1.65 to 3.6 V; DatasheetVersion: Rev. 4; PackageVersion: Rev. 4; PackageReference: UFBGA132; PackageDescription: 132-Ball Ultra Thin Fine Pitch Ball Grid Array, Body 7 x 7 mm, Pitch 0.5 mm; Core: ARM Cortex-M3; Temperature Range: -40 to 85 degC; Packing: Tray; Mounting Technology: Surface Mount; ComponentLink1Description: Manufacturer URL; ComponentLink1URL: http://www.st.com/web/en/home.html; ComponentLink2Description: Datasheet; ComponentLink2URL: http://www.st.com/st-web-ui/static/active/en/resource/technical/document/datasheet/DM00098321.pdf; ComponentLink3Description: Package Specification; ComponentLink3URL: http://www.st.com/st-web-ui/static/active/en/resource/technical/document/datasheet/DM00098321.pdf
footprint STM-UFBGA132 (BGA, 132-Balls, Body 7x7mm, Pitch 0.5mm)
part A pins: A3 PB8 (io) "PB8/TIM4_CH3/TIM10_CH1/I2C1_SCL/LCD_SEG16", A5 PD7 (io) "PD7/TIM9_CH2/USART2_CK", A6 PD5 (io) "PD5/USART2_TX", A7 PB4 (io) "PB4/NJTRST/TIM3_CH1/SPI1_MISO/SPI3_MISO/LCD_SEG8/COMP2_INP", A8 PB3 (io) "PB3/JTDO/TIM2_CH2/SPI1_SCK/SPI3_SCK/I2S3_CK/LCD_SEG7/COMP2_INM", A9 PA15 (io) "PA15/JTDI/TIM2_CH1_ETR/SPI1_NSS/SPI3_NSS/I2S3_WS/LCD_SEG17", A10 PA14 (io) "PA14/JTCK-SWCLK", A11 PA13 (io) "PA13/JTMS-SWDAT", A12 PA12 (io) "PA12/USART1_RTS/USB_DP/SPI1_MOSI", B3 PB9 (io) "PB9/TIM4_CH4/TIM11_CH1/I2C1_SDA/LCD_COM3", B4 PB7 (io) "PB7/TIM4_CH2/I2C1_SDA/USART1_RX/PVD_IN/COMP2_INP", B5 PB6 (io) "PB6/TIM4_CH1/I2C1_SCL/USART1_TX/COMP2_INP", B6 PD6 (io) "PD6/USART2_RX", B7 PD4 (io) "PD4/SPI2_MOSI/I2S2_SD/USART2_RTS", B8 PD3 (io) "PD3/SPI2_MISO/USART2_CTS", B9 PD1 (io) "PD1/SPI2_SCK/I2S2_CK", B10 PC12 (io) "PC12/SPI3_MOSI/I2S3_SD/USART3_CK/UART5_TX/LCD_SEG30/LCD_SEG42/LCD_COM6", B11 PC10 (io) "PC10/SPI3_SCK/I2S3_CK/USART3_TX/UART4_TX/LCD_SEG28/LCD_SEG40/LCD_COM4", B12 PA11 (io) "PA11/USART1_CTS/USB_DM/SPI1_MISO", C1 PC13-WKUP2 (io) "PC13-WKUP2/PC13/WKUP2/RTC_TAMP1/RTC_TS/RTC_OUT", C5 PB5 (io) "PB5/TIM3_CH2/I2C1_SMBA/SPI1_MOSI/SPI3_MOSI/I2S3_SD/LCD_SEG9/COMP2_INP", C8 PD2 (io) "PD2/TIM3_ETR/UART5_RX/LCD_SEG31/LCD_SEG43/LCD_COM7", C9 PD0 (io) "PD0/TIM9_CH1/SPI2_NSS/I2S2_WS", C10 PC11 (io) "PC11/SPI3_MISO/USART3_RX/UART4_RX/LCD_SEG29/LCD_SEG41/LCD_COM5", C12 PA10 (io) "PA10/USART1_RX/LCD_COM2", D1 PC14-OSC32_IN (io) "PC14-OSC32_IN/PC14/OSC32_IN", D10 PA9 (io) "PA9/USART1_TX/LCD_COM1", D11 PA8 (io) "PA8/USART1_CK/MCO/LCD_COM0", D12 PC9 (io) "PC9/TIM3_CH4/LCD_SEG27", E1 PC15-OSC32_OUT (io) "PC15-OSC32_OUT/PC15/OSC32_OUT", E10 PC8 (io) "PC8/TIM3_CH3/LCD_SEG26", E11 PC7 (io) "PC7/TIM3_CH2/I2S3_MCK/LCD_SEG25", E12 PC6 (io) "PC6/TIM3_CH1/I2S2_MCK/LCD_SEG24", H1 PC0 (io) "PC0/LCD_SEG18/ADC_IN10/COMP1_INP", H10 PD15 (io) "PD15/TIM4_CH4/LCD_SEG35", H11 PD14 (io) "PD14/TIM4_CH3/LCD_SEG34", H12 PD13 (io) "PD13/TIM4_CH2/LCD_SEG33", J2 PC1 (io) "PC1/LCD_SEG19/ADC_IN11/COMP1_INP", J3 PC2 (io) "PC2/LCD_SEG20/ADC_IN12/COMP1_INP", J4 PA4 (io) "PA4/SPI1_NSS/SPI3_NSS/I2S3_WS/USART2_CK/ADC_IN4/DAC_OUT1/COMP1_INP", J5 PA7 (io) "PA7/TIM3_CH2/TIM11_CH1/SPI1_MOSI/LCD_SEG4/ ADC_IN7/COMP1_INP", J10 PD12 (io) "PD12/TIM4_CH1/USART3_RTS/LCD_SEG32", J11 PD11 (io) "PD11/USART3_CTS/LCD_SEG31", J12 PD10 (io) "PD10/USART3_CK/LCD_SEG30", K2 PC3 (io) "PC3/LCD_SEG21/ADC_IN13/COMP1_INP", K3 PA2 (io) "PA2/TIM2_CH3/TIM5_CH3/TIM9_CH1/USART2_TX/LCD_SEG1/ADC_IN2/COMP1_INP", K4 PA5 (io) "PA5/TIM2_CH1_ETR/SPI1_SCK/ADC_IN5/DAC_OUT2/COMP1_INP", K5 PC4 (io) "PC4/LCD_SEG22/ADC_IN14/COMP1_INP", K8 PD9 (io) "PD9/USART3_RX/LCD_SEG29", K9 PD8 (io) "PD8/USART3_TX/LCD_SEG28", K10 PB15 (io) "PB15/TIM11_CH1/SPI2_MOSI/I2S2_SD/LCD_SEG15/ADC_IN21/COMP1_INP/RTC_REFIN", K11 PB14 (io) "PB14/TIM9_CH2/SPI2_MISO/USART3_RTS/LCD_SEG14/ADC_IN20/COMP1_INP", K12 PB13 (io) "PB13/TIM9_CH1/SPI2_SCK/I2S2_CK/USART3_CTS/LCD_SEG13/ADC_IN19/COMP1_INP", L2 PA0-WKUP1 (io) "PA0-WKUP1/PA0/WKUP1/RTC_TAMP2/TIM2_CH1_ETR/TIM5_CH1/USART2_CTS/ADC_IN0/COMP1_INP", L3 PA3 (io) "PA3/TIM2_CH4/TIM5_CH4/TIM9_CH2/USART2_RX/LCD_SEG2/ADC_IN3/COMP1_INP/OPAMP1_VOUT", L4 PA6 (io) "PA6/TIM3_CH1/TIM10_CH1/SPI1_MISO/LCD_SEG3/ADC_IN6/COMP1_INP/OPAMP2_VINP", L5 PC5 (io) "PC5/LCD_SEG23/ADC_IN15/COMP1_INP", L6 PB2 (io) "PB2/BOOT1/ADC_IN0b/COMP1_INP", L10 PB10 (io) "PB10/TIM2_CH3/I2C2_SCL/USART3_TX/LCD_SEG10", L11 PB11 (io) "PB11/TIM2_CH4/I2C2_SDA/USART3_RX/LCD_SEG11", L12 PB12 (io) "PB12/TIM10_CH1/I2C2_SMBA/SPI2_NSS/I2S2_WS/USART3_CK/LCD_SEG12/ADC_IN18/COMP1_INP", M2 PA1 (io) "PA1/TIM2_CH2/TIM5_CH2/USART2_RTS/LCD_SEG0/ADC_IN1/COMP1_INP/OPAMP1_VINP", M5 PB0 (io) "PB0/TIM3_CH3/LCD_SEG5/ADC_IN8/COMP1_INP/VREF_OUT/OPAMP2_VOUT", M6 PB1 (io) "PB1/TIM3_CH4/LCD_SEG6/ADC_IN9/COMP1_INP/VREF_OUT"
part B pins: A1 PE3 (io) "PE3/TIM3_CH1/LCD_SEG39/TRACED0", A2 PE1 (io) "PE1/TIM11_CH1/LCD_SEG37", A4 BOOT0 (in), B1 PE4 (io) "PE4/TIM3_CH2/TRACED1", B2 PE2 (io) "PE2/TIM3_ETR/LCD_SEG38/TRACECLK", C2 PE5 (io) "PE5/TIM9_CH1/TRACED2", C3 PE0 (io) "PE0/TIM4_ETR/TIM10_CH1/LCD_SEG36", C6 PG14 (io), C7 PG13 (io), C11 PH2 (io), D2 PE6-WKUP3 (io) "PE6-WKUP3/PE6/WKUP3/RTC_TAMP3/TIM9_CH2/TRACED3", D4 PF2 (io), D5 PF1 (io), D6 PF0 (io), D7 PG12 (io), D8 PG10 (io), D9 PG9 (io), E4 PF3 (io), E9 PG5 (io), F1 PH0-OSC_IN (io) "PH0-OSC_IN/PH0/OSC_IN", F3 PF4 (io), F4 PF5 (io), F9 PG3 (io) "PG3/ADC_IN11b/COMP1_INP", F10 PG4 (io) "PG4/ADC_IN12b/COMP1_INP", G1 PH1-OSC_OUT (io) "PH1-OSC_OUT/PH1/OSC_OUT", G3 PF6 (io) "PF6/TIM5_CH1/TIM5_ETR/ADC_IN27", G4 PF7 (io) "PF7/TIM5_CH2/ADC_IN28/COMP1_INP", G9 PG1 (io) "PG1/ADC_IN9b/COMP1_INP", G10 PG2 (io) "PG2/ADC_IN10b/COMP1_INP", H2 NRST (io), H4 PF8 (io) "PF8/TIM5_CH3/ADC_IN29/COMP1_INP", H9 PG0 (io) "PG0/ADC_IN8b/COMP1_INP", J6 PF9 (io) "PF9/TIM5_CH4/ADC_IN30/COMP1_INP", J7 PF12 (io) "PF12/ADC_IN2b/COMP1_INP", J8 PF14 (io) "PF14/ADC_IN6b/COMP1_INP", J9 PF15 (io) "PF15/ADC_IN7b/COMP1_INP", K1 NC, K6 PF11 (io) "PF11/ADC_IN1b/COMP1_INP", K7 PF13 (io) "PF13/ADC_IN3b/COMP1_INP", L7 PE8 (io) "PE8/ADC_IN23/COMP1_INP", L8 PE10 (io) "PE10/TIM2_CH2/ADC_IN25/COMP1_INP", L9 PE12 (io) "PE12/TIM2_CH4/SPI1_NSS", M3 OPAMP1_VINM (in), M4 OPAMP2_VINM (in), M7 PE7 (io) "PE7/ADC_IN22/COMP1_INP", M8 PE9 (io) "PE9/TIM2_CH1_ETR/ADC_IN24/COMP1_INP", M9 PE11 (io) "PE11/TIM2_CH3", M10 PE13 (io) "PE13/SPI1_SCK", M11 PE14 (io) "PE14/SPI1_MISO", M12 PE15 (io) "PE15/SPI1_MOSI"
part C pins: C4 VDD_3 (power), D3 VSS_3 (power), E2 VLCD (power), E3 VSS_6 (power), F2 VSS_5 (power), F6 VSS_9 (power), F7 VSS_10 (power), F11 VSS_2 (power), F12 VSS_1 (power), G2 VDD_5 (power), G6 VDD_9 (power), G7 VDD_10 (power), G11 VDD_2 (power), G12 VDD_1 (power), H3 VDD_6 (power), J1 VSSA (power), L1 VREF+ (power), M1 VDDA (power)

## STM32L151QEH6DTR
designator U?
ARM Cortex-M3 32-bit MCU, 512 KB Flash, 80 KB Internal RAM, 109 I/Os, 132-pin UFBGA, -40 to 85 degC, Tape and Reel; Manufacturer: STMicroelectronics; PartNumber: STM32L151QEH6DTR; D/A Converter: 2x12-bit (2 Channel); Data E2PROM nom (KB): 16; FLASH Size (Prog) (kB): 512; I/Os (High Current): 109; Internal RAM Size (kB): 80; Operating Frequency(F) (Processor speed) (MHz): 32; Supply Voltage (V): 1.65 to 3.6 V; DatasheetVersion: Rev. 4; PackageVersion: Rev. 4; PackageReference: UFBGA132; PackageDescription: 132-Ball Ultra Thin Fine Pitch Ball Grid Array, Body 7 x 7 mm, Pitch 0.5 mm; Core: ARM Cortex-M3; Temperature Range: -40 to 85 degC; Packing: Tape and Reel; Mounting Technology: Surface Mount; ComponentLink1Description: Manufacturer URL; ComponentLink1URL: http://www.st.com/web/en/home.html; ComponentLink2Description: Datasheet; ComponentLink2URL: http://www.st.com/st-web-ui/static/active/en/resource/technical/document/datasheet/DM00098321.pdf; ComponentLink3Description: Package Specification; ComponentLink3URL: http://www.st.com/st-web-ui/static/active/en/resource/technical/document/datasheet/DM00098321.pdf
footprint STM-UFBGA132 (BGA, 132-Balls, Body 7x7mm, Pitch 0.5mm)
part A pins: A3 PB8 (io) "PB8/TIM4_CH3/TIM10_CH1/I2C1_SCL/LCD_SEG16", A5 PD7 (io) "PD7/TIM9_CH2/USART2_CK", A6 PD5 (io) "PD5/USART2_TX", A7 PB4 (io) "PB4/NJTRST/TIM3_CH1/SPI1_MISO/SPI3_MISO/LCD_SEG8/COMP2_INP", A8 PB3 (io) "PB3/JTDO/TIM2_CH2/SPI1_SCK/SPI3_SCK/I2S3_CK/LCD_SEG7/COMP2_INM", A9 PA15 (io) "PA15/JTDI/TIM2_CH1_ETR/SPI1_NSS/SPI3_NSS/I2S3_WS/LCD_SEG17", A10 PA14 (io) "PA14/JTCK-SWCLK", A11 PA13 (io) "PA13/JTMS-SWDAT", A12 PA12 (io) "PA12/USART1_RTS/USB_DP/SPI1_MOSI", B3 PB9 (io) "PB9/TIM4_CH4/TIM11_CH1/I2C1_SDA/LCD_COM3", B4 PB7 (io) "PB7/TIM4_CH2/I2C1_SDA/USART1_RX/PVD_IN/COMP2_INP", B5 PB6 (io) "PB6/TIM4_CH1/I2C1_SCL/USART1_TX/COMP2_INP", B6 PD6 (io) "PD6/USART2_RX", B7 PD4 (io) "PD4/SPI2_MOSI/I2S2_SD/USART2_RTS", B8 PD3 (io) "PD3/SPI2_MISO/USART2_CTS", B9 PD1 (io) "PD1/SPI2_SCK/I2S2_CK", B10 PC12 (io) "PC12/SPI3_MOSI/I2S3_SD/USART3_CK/UART5_TX/LCD_SEG30/LCD_SEG42/LCD_COM6", B11 PC10 (io) "PC10/SPI3_SCK/I2S3_CK/USART3_TX/UART4_TX/LCD_SEG28/LCD_SEG40/LCD_COM4", B12 PA11 (io) "PA11/USART1_CTS/USB_DM/SPI1_MISO", C1 PC13-WKUP2 (io) "PC13-WKUP2/PC13/WKUP2/RTC_TAMP1/RTC_TS/RTC_OUT", C5 PB5 (io) "PB5/TIM3_CH2/I2C1_SMBA/SPI1_MOSI/SPI3_MOSI/I2S3_SD/LCD_SEG9/COMP2_INP", C8 PD2 (io) "PD2/TIM3_ETR/UART5_RX/LCD_SEG31/LCD_SEG43/LCD_COM7", C9 PD0 (io) "PD0/TIM9_CH1/SPI2_NSS/I2S2_WS", C10 PC11 (io) "PC11/SPI3_MISO/USART3_RX/UART4_RX/LCD_SEG29/LCD_SEG41/LCD_COM5", C12 PA10 (io) "PA10/USART1_RX/LCD_COM2", D1 PC14-OSC32_IN (io) "PC14-OSC32_IN/PC14/OSC32_IN", D10 PA9 (io) "PA9/USART1_TX/LCD_COM1", D11 PA8 (io) "PA8/USART1_CK/MCO/LCD_COM0", D12 PC9 (io) "PC9/TIM3_CH4/LCD_SEG27", E1 PC15-OSC32_OUT (io) "PC15-OSC32_OUT/PC15/OSC32_OUT", E10 PC8 (io) "PC8/TIM3_CH3/LCD_SEG26", E11 PC7 (io) "PC7/TIM3_CH2/I2S3_MCK/LCD_SEG25", E12 PC6 (io) "PC6/TIM3_CH1/I2S2_MCK/LCD_SEG24", H1 PC0 (io) "PC0/LCD_SEG18/ADC_IN10/COMP1_INP", H10 PD15 (io) "PD15/TIM4_CH4/LCD_SEG35", H11 PD14 (io) "PD14/TIM4_CH3/LCD_SEG34", H12 PD13 (io) "PD13/TIM4_CH2/LCD_SEG33", J2 PC1 (io) "PC1/LCD_SEG19/ADC_IN11/COMP1_INP", J3 PC2 (io) "PC2/LCD_SEG20/ADC_IN12/COMP1_INP", J4 PA4 (io) "PA4/SPI1_NSS/SPI3_NSS/I2S3_WS/USART2_CK/ADC_IN4/DAC_OUT1/COMP1_INP", J5 PA7 (io) "PA7/TIM3_CH2/TIM11_CH1/SPI1_MOSI/LCD_SEG4/ ADC_IN7/COMP1_INP", J10 PD12 (io) "PD12/TIM4_CH1/USART3_RTS/LCD_SEG32", J11 PD11 (io) "PD11/USART3_CTS/LCD_SEG31", J12 PD10 (io) "PD10/USART3_CK/LCD_SEG30", K2 PC3 (io) "PC3/LCD_SEG21/ADC_IN13/COMP1_INP", K3 PA2 (io) "PA2/TIM2_CH3/TIM5_CH3/TIM9_CH1/USART2_TX/LCD_SEG1/ADC_IN2/COMP1_INP", K4 PA5 (io) "PA5/TIM2_CH1_ETR/SPI1_SCK/ADC_IN5/DAC_OUT2/COMP1_INP", K5 PC4 (io) "PC4/LCD_SEG22/ADC_IN14/COMP1_INP", K8 PD9 (io) "PD9/USART3_RX/LCD_SEG29", K9 PD8 (io) "PD8/USART3_TX/LCD_SEG28", K10 PB15 (io) "PB15/TIM11_CH1/SPI2_MOSI/I2S2_SD/LCD_SEG15/ADC_IN21/COMP1_INP/RTC_REFIN", K11 PB14 (io) "PB14/TIM9_CH2/SPI2_MISO/USART3_RTS/LCD_SEG14/ADC_IN20/COMP1_INP", K12 PB13 (io) "PB13/TIM9_CH1/SPI2_SCK/I2S2_CK/USART3_CTS/LCD_SEG13/ADC_IN19/COMP1_INP", L2 PA0-WKUP1 (io) "PA0-WKUP1/PA0/WKUP1/RTC_TAMP2/TIM2_CH1_ETR/TIM5_CH1/USART2_CTS/ADC_IN0/COMP1_INP", L3 PA3 (io) "PA3/TIM2_CH4/TIM5_CH4/TIM9_CH2/USART2_RX/LCD_SEG2/ADC_IN3/COMP1_INP/OPAMP1_VOUT", L4 PA6 (io) "PA6/TIM3_CH1/TIM10_CH1/SPI1_MISO/LCD_SEG3/ADC_IN6/COMP1_INP/OPAMP2_VINP", L5 PC5 (io) "PC5/LCD_SEG23/ADC_IN15/COMP1_INP", L6 PB2 (io) "PB2/BOOT1/ADC_IN0b/COMP1_INP", L10 PB10 (io) "PB10/TIM2_CH3/I2C2_SCL/USART3_TX/LCD_SEG10", L11 PB11 (io) "PB11/TIM2_CH4/I2C2_SDA/USART3_RX/LCD_SEG11", L12 PB12 (io) "PB12/TIM10_CH1/I2C2_SMBA/SPI2_NSS/I2S2_WS/USART3_CK/LCD_SEG12/ADC_IN18/COMP1_INP", M2 PA1 (io) "PA1/TIM2_CH2/TIM5_CH2/USART2_RTS/LCD_SEG0/ADC_IN1/COMP1_INP/OPAMP1_VINP", M5 PB0 (io) "PB0/TIM3_CH3/LCD_SEG5/ADC_IN8/COMP1_INP/VREF_OUT/OPAMP2_VOUT", M6 PB1 (io) "PB1/TIM3_CH4/LCD_SEG6/ADC_IN9/COMP1_INP/VREF_OUT"
part B pins: A1 PE3 (io) "PE3/TIM3_CH1/LCD_SEG39/TRACED0", A2 PE1 (io) "PE1/TIM11_CH1/LCD_SEG37", A4 BOOT0 (in), B1 PE4 (io) "PE4/TIM3_CH2/TRACED1", B2 PE2 (io) "PE2/TIM3_ETR/LCD_SEG38/TRACECLK", C2 PE5 (io) "PE5/TIM9_CH1/TRACED2", C3 PE0 (io) "PE0/TIM4_ETR/TIM10_CH1/LCD_SEG36", C6 PG14 (io), C7 PG13 (io), C11 PH2 (io), D2 PE6-WKUP3 (io) "PE6-WKUP3/PE6/WKUP3/RTC_TAMP3/TIM9_CH2/TRACED3", D4 PF2 (io), D5 PF1 (io), D6 PF0 (io), D7 PG12 (io), D8 PG10 (io), D9 PG9 (io), E4 PF3 (io), E9 PG5 (io), F1 PH0-OSC_IN (io) "PH0-OSC_IN/PH0/OSC_IN", F3 PF4 (io), F4 PF5 (io), F9 PG3 (io) "PG3/ADC_IN11b/COMP1_INP", F10 PG4 (io) "PG4/ADC_IN12b/COMP1_INP", G1 PH1-OSC_OUT (io) "PH1-OSC_OUT/PH1/OSC_OUT", G3 PF6 (io) "PF6/TIM5_CH1/TIM5_ETR/ADC_IN27", G4 PF7 (io) "PF7/TIM5_CH2/ADC_IN28/COMP1_INP", G9 PG1 (io) "PG1/ADC_IN9b/COMP1_INP", G10 PG2 (io) "PG2/ADC_IN10b/COMP1_INP", H2 NRST (io), H4 PF8 (io) "PF8/TIM5_CH3/ADC_IN29/COMP1_INP", H9 PG0 (io) "PG0/ADC_IN8b/COMP1_INP", J6 PF9 (io) "PF9/TIM5_CH4/ADC_IN30/COMP1_INP", J7 PF12 (io) "PF12/ADC_IN2b/COMP1_INP", J8 PF14 (io) "PF14/ADC_IN6b/COMP1_INP", J9 PF15 (io) "PF15/ADC_IN7b/COMP1_INP", K1 NC, K6 PF11 (io) "PF11/ADC_IN1b/COMP1_INP", K7 PF13 (io) "PF13/ADC_IN3b/COMP1_INP", L7 PE8 (io) "PE8/ADC_IN23/COMP1_INP", L8 PE10 (io) "PE10/TIM2_CH2/ADC_IN25/COMP1_INP", L9 PE12 (io) "PE12/TIM2_CH4/SPI1_NSS", M3 OPAMP1_VINM (in), M4 OPAMP2_VINM (in), M7 PE7 (io) "PE7/ADC_IN22/COMP1_INP", M8 PE9 (io) "PE9/TIM2_CH1_ETR/ADC_IN24/COMP1_INP", M9 PE11 (io) "PE11/TIM2_CH3", M10 PE13 (io) "PE13/SPI1_SCK", M11 PE14 (io) "PE14/SPI1_MISO", M12 PE15 (io) "PE15/SPI1_MOSI"
part C pins: C4 VDD_3 (power), D3 VSS_3 (power), E2 VLCD (power), E3 VSS_6 (power), F2 VSS_5 (power), F6 VSS_9 (power), F7 VSS_10 (power), F11 VSS_2 (power), F12 VSS_1 (power), G2 VDD_5 (power), G6 VDD_9 (power), G7 VDD_10 (power), G11 VDD_2 (power), G12 VDD_1 (power), H3 VDD_6 (power), J1 VSSA (power), L1 VREF+ (power), M1 VDDA (power)

## STM32L151QEH6TR
designator U?
ARM Cortex-M3 32-bit MCU, 512 KB Flash, 80 KB Internal RAM, 109 I/Os, 132-pin UFBGA, -40 to 85 degC, Tape and Reel; Manufacturer: STMicroelectronics; PartNumber: STM32L151QEH6TR; D/A Converter: 2x12-bit (2 Channel); Data E2PROM nom (KB): 16; FLASH Size (Prog) (kB): 512; I/Os (High Current): 109; Internal RAM Size (kB): 80; Operating Frequency(F) (Processor speed) (MHz): 32; Supply Voltage (V): 1.8 to 3.6 V; DatasheetVersion: Rev. 4; PackageVersion: Rev. 4; PackageReference: UFBGA132; PackageDescription: 132-Ball Ultra Thin Fine Pitch Ball Grid Array, Body 7 x 7 mm, Pitch 0.5 mm; Core: ARM Cortex-M3; Temperature Range: -40 to 85 degC; Packing: Tape and Reel; Mounting Technology: Surface Mount; ComponentLink1Description: Manufacturer URL; ComponentLink1URL: http://www.st.com/web/en/home.html; ComponentLink2Description: Datasheet; ComponentLink2URL: http://www.st.com/st-web-ui/static/active/en/resource/technical/document/datasheet/DM00098321.pdf; ComponentLink3Description: Package Specification; ComponentLink3URL: http://www.st.com/st-web-ui/static/active/en/resource/technical/document/datasheet/DM00098321.pdf
footprint STM-UFBGA132 (BGA, 132-Balls, Body 7x7mm, Pitch 0.5mm)
part A pins: A3 PB8 (io) "PB8/TIM4_CH3/TIM10_CH1/I2C1_SCL/LCD_SEG16", A5 PD7 (io) "PD7/TIM9_CH2/USART2_CK", A6 PD5 (io) "PD5/USART2_TX", A7 PB4 (io) "PB4/NJTRST/TIM3_CH1/SPI1_MISO/SPI3_MISO/LCD_SEG8/COMP2_INP", A8 PB3 (io) "PB3/JTDO/TIM2_CH2/SPI1_SCK/SPI3_SCK/I2S3_CK/LCD_SEG7/COMP2_INM", A9 PA15 (io) "PA15/JTDI/TIM2_CH1_ETR/SPI1_NSS/SPI3_NSS/I2S3_WS/LCD_SEG17", A10 PA14 (io) "PA14/JTCK-SWCLK", A11 PA13 (io) "PA13/JTMS-SWDAT", A12 PA12 (io) "PA12/USART1_RTS/USB_DP/SPI1_MOSI", B3 PB9 (io) "PB9/TIM4_CH4/TIM11_CH1/I2C1_SDA/LCD_COM3", B4 PB7 (io) "PB7/TIM4_CH2/I2C1_SDA/USART1_RX/PVD_IN/COMP2_INP", B5 PB6 (io) "PB6/TIM4_CH1/I2C1_SCL/USART1_TX/COMP2_INP", B6 PD6 (io) "PD6/USART2_RX", B7 PD4 (io) "PD4/SPI2_MOSI/I2S2_SD/USART2_RTS", B8 PD3 (io) "PD3/SPI2_MISO/USART2_CTS", B9 PD1 (io) "PD1/SPI2_SCK/I2S2_CK", B10 PC12 (io) "PC12/SPI3_MOSI/I2S3_SD/USART3_CK/UART5_TX/LCD_SEG30/LCD_SEG42/LCD_COM6", B11 PC10 (io) "PC10/SPI3_SCK/I2S3_CK/USART3_TX/UART4_TX/LCD_SEG28/LCD_SEG40/LCD_COM4", B12 PA11 (io) "PA11/USART1_CTS/USB_DM/SPI1_MISO", C1 PC13-WKUP2 (io) "PC13-WKUP2/PC13/WKUP2/RTC_TAMP1/RTC_TS/RTC_OUT", C5 PB5 (io) "PB5/TIM3_CH2/I2C1_SMBA/SPI1_MOSI/SPI3_MOSI/I2S3_SD/LCD_SEG9/COMP2_INP", C8 PD2 (io) "PD2/TIM3_ETR/UART5_RX/LCD_SEG31/LCD_SEG43/LCD_COM7", C9 PD0 (io) "PD0/TIM9_CH1/SPI2_NSS/I2S2_WS", C10 PC11 (io) "PC11/SPI3_MISO/USART3_RX/UART4_RX/LCD_SEG29/LCD_SEG41/LCD_COM5", C12 PA10 (io) "PA10/USART1_RX/LCD_COM2", D1 PC14-OSC32_IN (io) "PC14-OSC32_IN/PC14/OSC32_IN", D10 PA9 (io) "PA9/USART1_TX/LCD_COM1", D11 PA8 (io) "PA8/USART1_CK/MCO/LCD_COM0", D12 PC9 (io) "PC9/TIM3_CH4/LCD_SEG27", E1 PC15-OSC32_OUT (io) "PC15-OSC32_OUT/PC15/OSC32_OUT", E10 PC8 (io) "PC8/TIM3_CH3/LCD_SEG26", E11 PC7 (io) "PC7/TIM3_CH2/I2S3_MCK/LCD_SEG25", E12 PC6 (io) "PC6/TIM3_CH1/I2S2_MCK/LCD_SEG24", H1 PC0 (io) "PC0/LCD_SEG18/ADC_IN10/COMP1_INP", H10 PD15 (io) "PD15/TIM4_CH4/LCD_SEG35", H11 PD14 (io) "PD14/TIM4_CH3/LCD_SEG34", H12 PD13 (io) "PD13/TIM4_CH2/LCD_SEG33", J2 PC1 (io) "PC1/LCD_SEG19/ADC_IN11/COMP1_INP", J3 PC2 (io) "PC2/LCD_SEG20/ADC_IN12/COMP1_INP", J4 PA4 (io) "PA4/SPI1_NSS/SPI3_NSS/I2S3_WS/USART2_CK/ADC_IN4/DAC_OUT1/COMP1_INP", J5 PA7 (io) "PA7/TIM3_CH2/TIM11_CH1/SPI1_MOSI/LCD_SEG4/ ADC_IN7/COMP1_INP", J10 PD12 (io) "PD12/TIM4_CH1/USART3_RTS/LCD_SEG32", J11 PD11 (io) "PD11/USART3_CTS/LCD_SEG31", J12 PD10 (io) "PD10/USART3_CK/LCD_SEG30", K2 PC3 (io) "PC3/LCD_SEG21/ADC_IN13/COMP1_INP", K3 PA2 (io) "PA2/TIM2_CH3/TIM5_CH3/TIM9_CH1/USART2_TX/LCD_SEG1/ADC_IN2/COMP1_INP", K4 PA5 (io) "PA5/TIM2_CH1_ETR/SPI1_SCK/ADC_IN5/DAC_OUT2/COMP1_INP", K5 PC4 (io) "PC4/LCD_SEG22/ADC_IN14/COMP1_INP", K8 PD9 (io) "PD9/USART3_RX/LCD_SEG29", K9 PD8 (io) "PD8/USART3_TX/LCD_SEG28", K10 PB15 (io) "PB15/TIM11_CH1/SPI2_MOSI/I2S2_SD/LCD_SEG15/ADC_IN21/COMP1_INP/RTC_REFIN", K11 PB14 (io) "PB14/TIM9_CH2/SPI2_MISO/USART3_RTS/LCD_SEG14/ADC_IN20/COMP1_INP", K12 PB13 (io) "PB13/TIM9_CH1/SPI2_SCK/I2S2_CK/USART3_CTS/LCD_SEG13/ADC_IN19/COMP1_INP", L2 PA0-WKUP1 (io) "PA0-WKUP1/PA0/WKUP1/RTC_TAMP2/TIM2_CH1_ETR/TIM5_CH1/USART2_CTS/ADC_IN0/COMP1_INP", L3 PA3 (io) "PA3/TIM2_CH4/TIM5_CH4/TIM9_CH2/USART2_RX/LCD_SEG2/ADC_IN3/COMP1_INP/OPAMP1_VOUT", L4 PA6 (io) "PA6/TIM3_CH1/TIM10_CH1/SPI1_MISO/LCD_SEG3/ADC_IN6/COMP1_INP/OPAMP2_VINP", L5 PC5 (io) "PC5/LCD_SEG23/ADC_IN15/COMP1_INP", L6 PB2 (io) "PB2/BOOT1/ADC_IN0b/COMP1_INP", L10 PB10 (io) "PB10/TIM2_CH3/I2C2_SCL/USART3_TX/LCD_SEG10", L11 PB11 (io) "PB11/TIM2_CH4/I2C2_SDA/USART3_RX/LCD_SEG11", L12 PB12 (io) "PB12/TIM10_CH1/I2C2_SMBA/SPI2_NSS/I2S2_WS/USART3_CK/LCD_SEG12/ADC_IN18/COMP1_INP", M2 PA1 (io) "PA1/TIM2_CH2/TIM5_CH2/USART2_RTS/LCD_SEG0/ADC_IN1/COMP1_INP/OPAMP1_VINP", M5 PB0 (io) "PB0/TIM3_CH3/LCD_SEG5/ADC_IN8/COMP1_INP/VREF_OUT/OPAMP2_VOUT", M6 PB1 (io) "PB1/TIM3_CH4/LCD_SEG6/ADC_IN9/COMP1_INP/VREF_OUT"
part B pins: A1 PE3 (io) "PE3/TIM3_CH1/LCD_SEG39/TRACED0", A2 PE1 (io) "PE1/TIM11_CH1/LCD_SEG37", A4 BOOT0 (in), B1 PE4 (io) "PE4/TIM3_CH2/TRACED1", B2 PE2 (io) "PE2/TIM3_ETR/LCD_SEG38/TRACECLK", C2 PE5 (io) "PE5/TIM9_CH1/TRACED2", C3 PE0 (io) "PE0/TIM4_ETR/TIM10_CH1/LCD_SEG36", C6 PG14 (io), C7 PG13 (io), C11 PH2 (io), D2 PE6-WKUP3 (io) "PE6-WKUP3/PE6/WKUP3/RTC_TAMP3/TIM9_CH2/TRACED3", D4 PF2 (io), D5 PF1 (io), D6 PF0 (io), D7 PG12 (io), D8 PG10 (io), D9 PG9 (io), E4 PF3 (io), E9 PG5 (io), F1 PH0-OSC_IN (io) "PH0-OSC_IN/PH0/OSC_IN", F3 PF4 (io), F4 PF5 (io), F9 PG3 (io) "PG3/ADC_IN11b/COMP1_INP", F10 PG4 (io) "PG4/ADC_IN12b/COMP1_INP", G1 PH1-OSC_OUT (io) "PH1-OSC_OUT/PH1/OSC_OUT", G3 PF6 (io) "PF6/TIM5_CH1/TIM5_ETR/ADC_IN27", G4 PF7 (io) "PF7/TIM5_CH2/ADC_IN28/COMP1_INP", G9 PG1 (io) "PG1/ADC_IN9b/COMP1_INP", G10 PG2 (io) "PG2/ADC_IN10b/COMP1_INP", H2 NRST (io), H4 PF8 (io) "PF8/TIM5_CH3/ADC_IN29/COMP1_INP", H9 PG0 (io) "PG0/ADC_IN8b/COMP1_INP", J6 PF9 (io) "PF9/TIM5_CH4/ADC_IN30/COMP1_INP", J7 PF12 (io) "PF12/ADC_IN2b/COMP1_INP", J8 PF14 (io) "PF14/ADC_IN6b/COMP1_INP", J9 PF15 (io) "PF15/ADC_IN7b/COMP1_INP", K1 NC, K6 PF11 (io) "PF11/ADC_IN1b/COMP1_INP", K7 PF13 (io) "PF13/ADC_IN3b/COMP1_INP", L7 PE8 (io) "PE8/ADC_IN23/COMP1_INP", L8 PE10 (io) "PE10/TIM2_CH2/ADC_IN25/COMP1_INP", L9 PE12 (io) "PE12/TIM2_CH4/SPI1_NSS", M3 OPAMP1_VINM (in), M4 OPAMP2_VINM (in), M7 PE7 (io) "PE7/ADC_IN22/COMP1_INP", M8 PE9 (io) "PE9/TIM2_CH1_ETR/ADC_IN24/COMP1_INP", M9 PE11 (io) "PE11/TIM2_CH3", M10 PE13 (io) "PE13/SPI1_SCK", M11 PE14 (io) "PE14/SPI1_MISO", M12 PE15 (io) "PE15/SPI1_MOSI"
part C pins: C4 VDD_3 (power), D3 VSS_3 (power), E2 VLCD (power), E3 VSS_6 (power), F2 VSS_5 (power), F6 VSS_9 (power), F7 VSS_10 (power), F11 VSS_2 (power), F12 VSS_1 (power), G2 VDD_5 (power), G6 VDD_9 (power), G7 VDD_10 (power), G11 VDD_2 (power), G12 VDD_1 (power), H3 VDD_6 (power), J1 VSSA (power), L1 VREF+ (power), M1 VDDA (power)

## STM32L151R6H6
designator U?
ARM Cortex-M3 32-bit MCU, 32 KB Flash, 10 KB Internal RAM, 51 I/Os, 64-pin TFBGA, -40 to 85 degC, Tray; Manufacturer: STMicroelectronics; PartNumber: STM32L151R6H6; D/A Converter: 2x12-bit (2 Channel); Data E2PROM nom (B): 4096; FLASH Size (Prog) (kB): 32; I/Os (High Current): 51; Internal RAM Size (kB): 10; Supply Voltage(Vcc) min (V): 1.65; DatasheetVersion: Rev. 8; PackageVersion: Rev. 8, 02/2013; PackageReference: TFBGA64; PackageDescription: 64-Ball Thin Fine Pitch BGA, 5 x 5 x 1.2 mm Body, 0.5 mm Pitch; Core: ARM Cortex-M3; Operating Frequency(F) (Processor speed) (MHz): 32; Packing: Tray; Mounting Technology: Surface Mount; ComponentLink1Description: Manufacturer URL; ComponentLink1URL: http://www.st.com/web/en/home.html; ComponentLink2Description: Datasheet; ComponentLink2URL: http://www.st.com/st-web-ui/static/active/en/resource/technical/document/datasheet/CD00277537.pdf; ComponentLink3Description: Package Specification; ComponentLink3URL: http://www.st.com/st-web-ui/static/active/en/resource/technical/document/datasheet/CD00277537.pdf
footprint STM-TFBGA64 (BGA, 64-Balls, Body 5x5mm, Pitch 0.5mm)
part A pins: A1 PC14-OSC32_IN (io) "PC14-OSC32_IN/PC14/OSC32_IN", A2 PC13-WKUP2 (io) "PC13-WKUP2/PC13/RTC_TAMP1/RTC_TS/RTC_OUT/WKUP2", A3 PB9 (io) "PB9/TIM4_CH4/I2C1_SDA/LCD_COM3/TIM11_CH1", A4 PB4 (io) "PB4/NJTRST/TIM3_CH1/SPI1_MISO/COMP2_INP/LCD_SEG8", A5 PB3 (io) "PB3/JTDO/TIM2_CH2/SPI1_SCK/COMP2_INM/LCD_SEG7", A6 PA15 (io) "PA15/JTDI/TIM2_CH1_ETR/SPI1_NSS/LCD_SEG17", A7 PA14 (io) "PA14/JTCK/SWCLK", A8 PA13 (io) "PA13/JTMS/SWDAT", B1 PC15-OSC32_OUT (io) "PC15-OSC32_OUT/PC15/OSC32_OUT", B3 PB8 (io) "PB8/TIM4_CH3/I2C1_SCL/LCD_SEG16/TIM10_CH1", B4 BOOT0 (in), B5 PD2 (io) "PD2/TIM3_ETR/LCD_SEG31/LCD_SEG43/LCD_COM7", B6 PC11 (io) "PC11/USART3_RX/LCD_SEG29/LCD_SEG41/LCD_COM5", B7 PC10 (io) "PC10/USART3_TX/LCD_SEG28/LCD_SEG40/LCD_COM4", B8 PA12 (io) "PA12/USART1_RTS/USB_DP/SPI1_MOSI", C1 PH0-OSC_IN (io) "PH0-OSC_IN/PH0/OSC_IN", C3 PB7 (io) "PB7/I2C1_SDA/TIM4_CH2/USART1_RX/PVD_IN", C4 PB5 (io) "PB5/I2C1_SMBA/TIM3_CH2/SPI1_MOSI/COMP2_INP/LCD_SEG9", C5 PC12 (io) "PC12/USART3_CK/LCD_SEG30/LCD_SEG42/LCD_COM6", C6 PA10 (io) "PA10/USART1_RX/LCD_COM2", C7 PA9 (io) "PA9/USART1_TX/LCD_COM1", C8 PA11 (io) "PA11/USART1_CTS/USB_DM/SPI1_MISO", D1 PH1-OSC_OUT (io) "PH1-OSC_OUT/PH1/OSC_OUT", D3 PB6 (io) "PB6/I2C1_SCL/TIM4_CH1/USART1_TX", D7 PA8 (io) "PA8/USART1_CK/MCO/LCD_COM0", D8 PC9 (io) "PC9/TIM3_CH4/LCD_SEG27", E1 NRST (io), E2 PC1 (io) "PC1/ADC_IN11/LCD_SEG19/COMP1_INP", E3 PC0 (io) "PC0/ADC_IN10/LCD_SEG18/COMP1_INP", E7 PC7 (io) "PC7/TIM3_CH2/LCD_SEG25", E8 PC8 (io) "PC8/TIM3_CH3/LCD_SEG26", F2 PC2 (io) "PC2/ADC_IN12/LCD_SEG20/COMP1_INP", F3 PA2 (io) "PA2/USART2_TX/ADC_IN2/TIM2_CH3/TIM9_CH1/LCD_SEG1/COMP1_INP", F4 PA5 (io) "PA5/SPI1_SCK/ADC_IN5/DAC_OUT2/TIM2_CH1_ETR/COMP1_INP", F5 PB0 (io) "PB0/ADC_IN8/TIM3_CH3/LCD_SEG5/COMP1_INP/VREF_OUT", F6 PC6 (io) "PC6/TIM3_CH1/LCD_SEG24", F7 PB15 (io) "PB15/SPI2_MOSI/LCD_SEG15/ADC_IN21/COMP1_INP/TIM11_CH1/RTC_REFIN", F8 PB14 (io) "PB14/SPI2_MISO/USART3_RTS/LCD_SEG14/ADC_IN20/COMP1_INP/TIM9_CH2", G2 PA0-WKUP1 (io) "PA0-WKUP1/PA0/WKUP1/USART2_CTS/ADC_IN0/TIM2_CH1_ETR/COMP1_INP", G3 PA3 (io) "PA3/USART2_RX/ADC_IN3/TIM2_CH4/TIM9_CH2/LCD_SEG2/COMP1_INP", G4 PA6 (io) "PA6/SPI1_MISO/ADC_IN6/TIM3_CH1/LCD_SEG3/TIM10_CH1/COMP1_INP", G5 PB1 (io) "PB1/ADC_IN9/TIM3_CH4/LCD_SEG6/COMP1_INP/VREF_OUT", G6 PB2 (io) "PB2/BOOT1", G7 PB10 (io) "PB10/I2C2_SCL/USART3_TX/TIM2_CH3/LCD_SEG10", G8 PB13 (io) "PB13/SPI2_SCK/USART3_CTS/LCD_SEG13/ADC_IN19/COMP1_INP/TIM9_CH1", H2 PA1 (io) "PA1/USART2_RTS/ADC_IN1/TIM2_CH2/LCD_SEG0/COMP1_INP", H3 PA4 (io) "PA4/SPI1_NSS/USART2_CK/ADC_IN4/DAC_OUT1/COMP1_INP", H4 PA7 (io) "PA7/SPI1_MOSI/ADC_IN7/TIM3_CH2/LCD_SEG4/TIM11_CH1/COMP1_INP", H5 PC4 (io) "PC4/ADC_IN14/LCD_SEG22/COMP1_INP", H6 PC5 (io) "PC5/ADC_IN15/LCD_SEG23/COMP1_INP", H7 PB11 (io) "PB11/I2C2_SDA/USART3_RX/TIM2_CH4/LCD_SEG11", H8 PB12 (io) "PB12/SPI2_NSS/I2C2_SMBA/USART3_CK/LCD_SEG12/ADC_IN18/COMP1_INP/TIM10_CH1"
part B pins: B2 VLCD (power), C2 VSS_4 (power), D2 VDD_4 (power), D4 VSS_3 (power), D5 VSS_2 (power), D6 VSS_1 (power), E4 VDD_3 (power), E5 VDD_2 (power), E6 VDD_1 (power), F1 VSSA (power), G1 VREF+ (power), H1 VDDA (power)